# Altium integrated library IR Rectifier - Ultrafast Recovery.IntLib: 68 symbols (part 2 of 2)
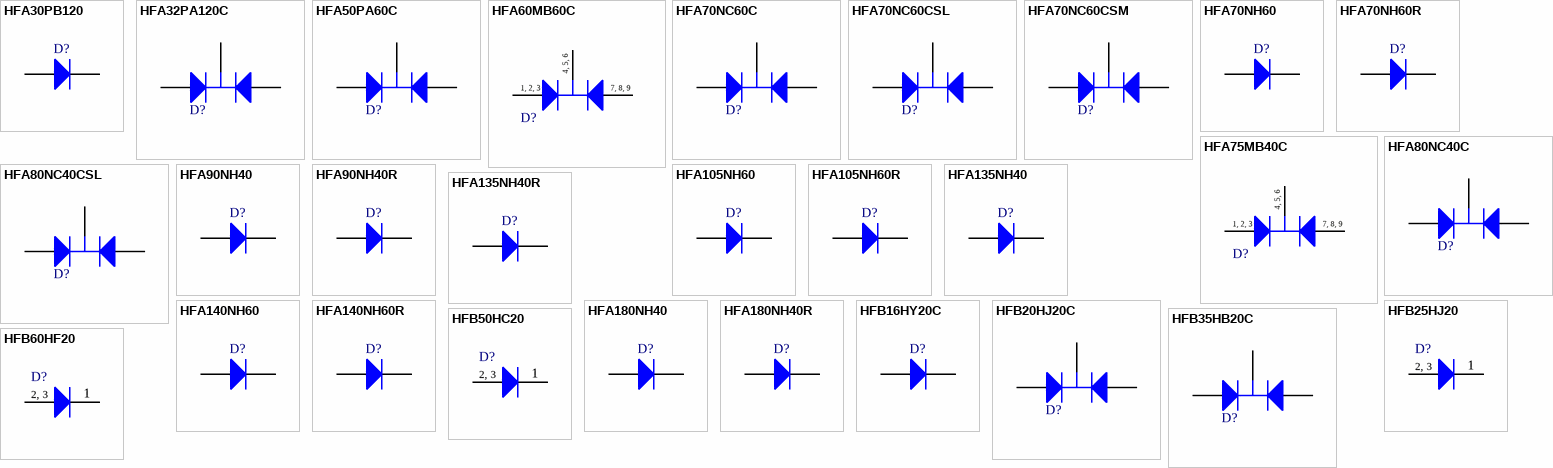
[diagram p2: symbols HFA30PB120 to HFB60HF20]

## HFB20HJ20C
designator D?
Ultrafast, Soft Recovery Diode; Published: 17-Sep-2003; LatestRevisionDate: 04-Jan-2011; LatestRevisionNote: PCB pads 2 & 3 swapped.; DatasheetVersion: 8-May-2001; PackageVersion: Nov-2001; PackageReference: SMD-0.5; Publisher: Altium Limited; PackageDescription: SM; 3 Leadless Terminals; Body 10.16 x 7.52 x 3.12 mm (LxWxH); ComponentLink1Description: Manufacturer Link; ComponentLink1URL: http://www.irf.com/; ComponentLink2Description: Datasheet; ComponentLink2URL: http://www.irf.com/product-info/datasheets/data/HFB20HJ20C.pdf
footprint SMD-0.5 (SM; 3 Leadless Terminals; Body 10.16 x 7.52 x 3.12 mm (LxWxH))
simulation model HFB20HJ20C (SUBCKT)
pins: 1 K, 2 A1, 3 A2

## HFB25HJ20
designator D?
Ultrafast, Soft Recovery Diode; Published: 17-Sep-2003; LatestRevisionDate: 04-Jan-2011; LatestRevisionNote: PCB pads 2 & 3 swapped.; DatasheetVersion: 9-Jul-2001; PackageVersion: Nov-2001; PackageReference: SMD-0.5; Publisher: Altium Limited; PackageDescription: SM; 3 Leadless Terminals; Body 10.16 x 7.52 x 3.12 mm (LxWxH); ComponentLink1Description: Manufacturer Link; ComponentLink1URL: http://www.irf.com/; ComponentLink2Description: Datasheet; ComponentLink2URL: http://www.irf.com/product-info/datasheets/data/HFB25HJ20.pdf
footprint SMD-0.5 (SM; 3 Leadless Terminals; Body 10.16 x 7.52 x 3.12 mm (LxWxH))
simulation model HFB25HJ20 (DIODE)
pins: 1 K, 2 A1, 3 A2
text: 2, 3

## HFB35HB20C
designator D?
Ultrafast, Soft Recovery Diode; Published: 17-Sep-2003; DatasheetVersion: 18-Oct-2001; PackageReference: TO-254AA; Publisher: Altium Limited; PackageDescription: TO, Thru-Hole, Vertical, Heatsink Mounted; 3 In-Line Leads; Pitch 3.81 mm; Code_JEDEC: TO-254-AA; ComponentLink1Description: Manufacturer Link; ComponentLink1URL: http://www.irf.com/; ComponentLink2Description: Datasheet; ComponentLink2URL: http://www.irf.com/product-info/datasheets/data/HFB35HB20C.pdf
footprint TO-254AA (TO, Thru-Hole, Vertical, Heatsink Mounted; 3 In-Line Leads; Pitch 3.81 mm)
simulation model HFB35HB20C (SUBCKT)
pins: 1 A1, 2 K, 3 A2

## HFB50HC20
designator D?
Ultrafast, Soft Recovery Diode; Published: 17-Sep-2003; DatasheetVersion: 18-Oct-2001; PackageReference: TO-258AA; Publisher: Altium Limited; PackageDescription: TO, Thru-Hole, Vertical, Heatsink Mounted; 3 In-Line Leads; Pitch 5.08 mm; ComponentLink1Description: Manufacturer Link; ComponentLink1URL: http://www.irf.com/; ComponentLink2Description: Datasheet; ComponentLink2URL: http://www.irf.com/product-info/datasheets/data/HFB50HC20.pdf
footprint TO-258AA (TO, Thru-Hole, Vertical, Heatsink Mounted; 3 In-Line Leads; Pitch 5.08 mm)
simulation model HFB50HC20 (DIODE)
pins: 1 K, 2 A1, 3 A2
text: 2, 3

## HFB60HF20
designator D?
Ultrafast, Soft Recovery Diode; Published: 17-Sep-2003; LatestRevisionDate: 04-Jan-2011; LatestRevisionNote: PCB pads 2 & 3 swapped.; DatasheetVersion: 10-Jul-2001; PackageVersion: Jan-2003; PackageReference: SMD-1; Publisher: Altium Limited; PackageDescription: SM; 3 Leadless Terminals; Body 15.88 x 11.43 x 3.58 mm (LxWxH); ComponentLink1Description: Manufacturer Link; ComponentLink1URL: http://www.irf.com/; ComponentLink2Description: Datasheet; ComponentLink2URL: http://www.irf.com/product-info/datasheets/data/HFB60HF20.pdf
footprint SMD-1 (SM; 3 Leadless Terminals; Body 15.88 x 11.43 x 3.58 mm (LxWxH))
simulation model HFB60HF20 (DIODE)
pins: 1 K, 2 A1, 3 A2
text: 2, 3